# EAGLE library part PCM5102A (library My Library)
PCM510xA2.1 VRMS, 112/106/100 dB AudioStereoDACwith PLL and 32-bit,384 kHz PCM Interface ThePCM510xAdevicesare a familyof monolithicCMOS-integratedcircuitsthat includea stereodigital-to-analogconverterand additionalsupportcircuitryina smallTSSOPpackage.ThePCM510xAdevicesuse the latestgenerationof TI’s advancedsegment-DACarchitectureto achieveexcellentdynamicperformanceand improvedtoleranceto clockjitter. http://www.ti.com/product/PCM5102A
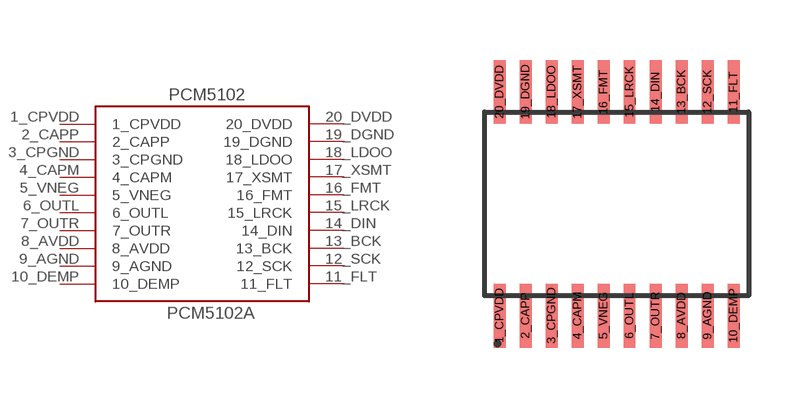
[diagram p0: symbol with the pads of PCM5102A; footprint PCM5102A]

Designator prefix PCM5102

## PCM5102A  [PCM5102A]
1_CPVDD  1_CPVDD
2_CAPP  2_CAPP
3_CPGND  3_CPGND
4_CAPM  4_CAPM
5_VNEG  5_VNEG
6_OUTL  6_OUTL
7_OUTR  7_OUTR
8_AVDD  8_AVDD
9_AGND  9_AGND
10_DEMP  10_DEMP
11_FLT  11_FLT
12_SCK  12_SCK
13_BCK  13_BCK
14_DIN  14_DIN
15_LRCK  15_LRCK
16_FMT  16_FMT
17_XSMT  17_XSMT  in
18_LDOO  18_LDOO
19_DGND  19_DGND
20_DVDD  20_DVDD

## Footprint PCM5102A (pad centres in mm)
smd 0.3 x 1.6: 1_CPVDD -2.925,-2.8; 2_CAPP -2.275,-2.8; 3_CPGND -1.625,-2.8; 4_CAPM -0.975,-2.8; 5_VNEG -0.325,-2.8; 6_OUTL 0.325,-2.8; 7_OUTR 0.975,-2.8; 8_AVDD 1.625,-2.8; 9_AGND 2.275,-2.8; 10_DEMP 2.925,-2.8; 11_FLT 2.925,2.8; 12_SCK 2.275,2.8; 13_BCK 1.625,2.8; 14_DIN 0.975,2.8; 15_LRCK 0.325,2.8; 16_FMT -0.325,2.8; 17_XSMT -0.975,2.8; 18_LDOO -1.625,2.8; 19_DGND -2.275,2.8; 20_DVDD -2.925,2.8